# EAGLE library part MIC5350 (library KwanSystems)
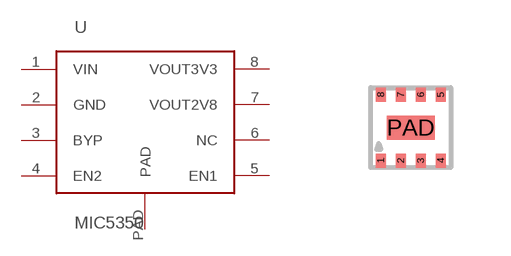
[diagram p0: symbol with the pads of TMLF_2MM_2MM_8PIN; footprint TMLF_2MM_2MM_8PIN]

Designator prefix -

## MIC5350  [TMLF_2MM_2MM_8PIN]
1  VIN
2  GND
3  BYP
4  EN2
5  EN1
6  NC
7  VOUT2V8
8  VOUT3V3
PAD  PAD

## Footprint TMLF_2MM_2MM_8PIN (pad centres in mm)
smd 0.25 x 0.35: 1 -0.75,-0.825; 2 -0.25,-0.825; 3 0.25,-0.825; 4 0.75,-0.825; 5 0.75,0.825; 6 0.25,0.825; 7 -0.25,0.825; 8 -0.75,0.825
smd 1.2 x 0.6: PAD 0,0